# Altium schematic symbol library 2020-03-27_02-06-16.SchLib: 2 symbols
Pins are listed as number, name and electrical type; pins without a type are passive.

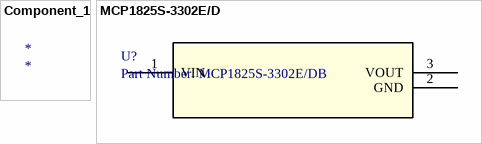
[diagram p0: symbols Component_1 to MCP1825S-3302E/D]

## Component_1
designator *

## MCP1825S-3302E/D
designator U?, comment Part Number: MCP1825S-3302E/DB
No Description Available; Vendor: Microchip; Built_By: EMA_UL_Team; Manufacturer_Part_Number: MCP1825S-3302E/DB; Copyright: Copyright (C) 2018 Accelerated Designs. All rights reserved; RefDes: RefDes; Type: DEV; Value: Value
footprint SOT-223_3MC
pins: 1 VIN, 2 GND, 3 VOUT